# EAGLE library part ATMEGA328P-AU (library Badge_v202004081200_Eagle_Library_regex)
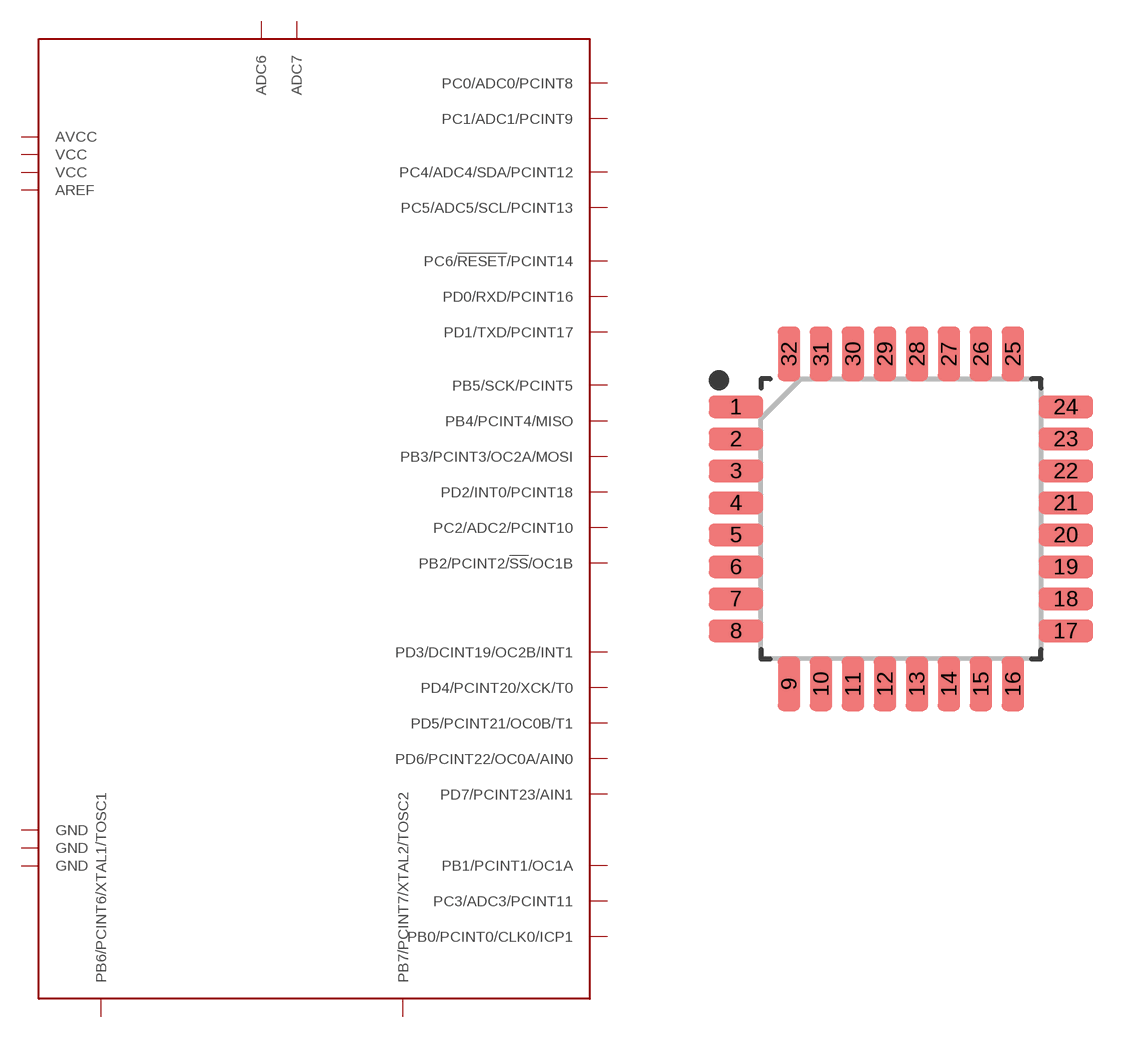
[diagram p8: symbol with the pads of QFP32P80_900X900X120L60X37N; footprint QFP32P80_900X900X120L60X37N]

Designator prefix U

## ATMEGA328P-AU (MANUFACTURER: ATMEGA328P-AU; VALUE: IC MCU 8BIT 32KB FLASH 32TQFP)  [QFP32P80_900X900X120L60X37N]
1  PD3/DCINT19/OC2B/INT1  nc
2  PD4/PCINT20/XCK/T0  nc
3  GND  nc
4  VCC  nc
5  GND  nc
6  VCC  nc
7  PB6/PCINT6/XTAL1/TOSC1  nc
8  PB7/PCINT7/XTAL2/TOSC2  nc
9  PD5/PCINT21/OC0B/T1  nc
10  PD6/PCINT22/OC0A/AIN0  nc
11  PD7/PCINT23/AIN1  nc
12  PB0/PCINT0/CLK0/ICP1  nc
13  PB1/PCINT1/OC1A  nc
14  PB2/PCINT2/!SS!/OC1B  nc
15  PB3/PCINT3/OC2A/MOSI  nc
16  PB4/PCINT4/MISO  nc
17  PB5/SCK/PCINT5  nc
18  AVCC  nc
19  ADC6  nc
20  AREF  nc
21  GND  nc
22  ADC7  nc
23  PC0/ADC0/PCINT8  nc
24  PC1/ADC1/PCINT9  nc
25  PC2/ADC2/PCINT10  nc
26  PC3/ADC3/PCINT11  nc
27  PC4/ADC4/SDA/PCINT12  nc
28  PC5/ADC5/SCL/PCINT13  nc
29  PC6/!RESET!/PCINT14  nc
30  PD0/RXD/PCINT16  nc
31  PD1/TXD/PCINT17  nc
32  PD2/INT0/PCINT18  nc

## Footprint QFP32P80_900X900X120L60X37N (pad centres in mm)
smd 1.37 x 0.57: 1 -4.125,2.8; 2 -4.125,2; 3 -4.125,1.2; 4 -4.125,0.4; 5 -4.125,-0.4; 6 -4.125,-1.2; 7 -4.125,-2; 8 -4.125,-2.8; 17 4.125,-2.8; 18 4.125,-2; 19 4.125,-1.2; 20 4.125,-0.4; 21 4.125,0.4; 22 4.125,1.2; 23 4.125,2; 24 4.125,2.8
smd 0.57 x 1.37: 9 -2.8,-4.125; 10 -2,-4.125; 11 -1.2,-4.125; 12 -0.4,-4.125; 13 0.4,-4.125; 14 1.2,-4.125; 15 2,-4.125; 16 2.8,-4.125; 25 2.8,4.125; 26 2,4.125; 27 1.2,4.125; 28 0.4,4.125; 29 -0.4,4.125; 30 -1.2,4.125; 31 -2,4.125; 32 -2.8,4.125